# Altium footprint library Smartwatch_Lib.PcbLib: 19 footprints (part 2 of 2)
Each footprint in its own frame and in the unit in brackets; x right, y up, seen from the top. Pads: shape width x height; smd on the part's side, far side on the other; paste and mask are expansions set on the pad; w line width, h text height; cw(c..) or ccw(c..) is an arc to the next point about the centre after c.
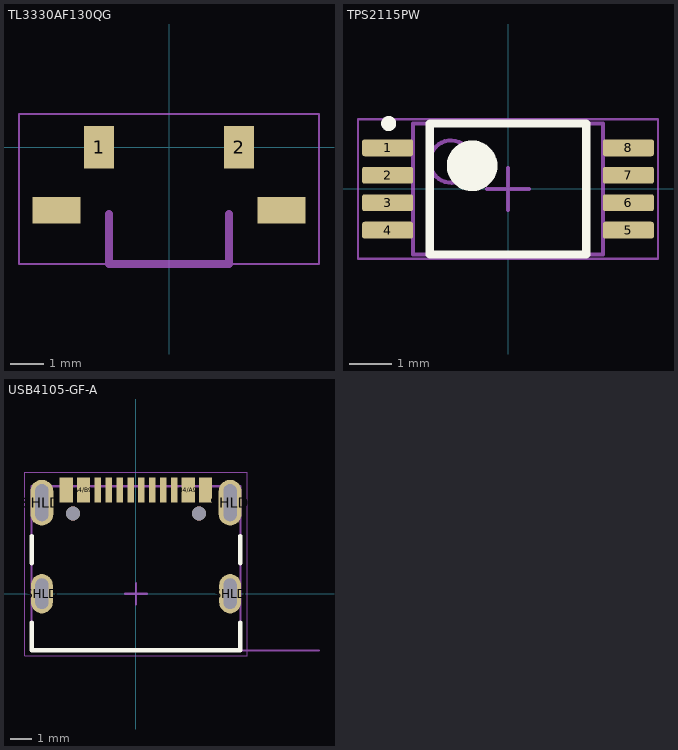
[diagram p1: the footprints below, top view; thin cyan lines are the x and y axes]

## TL3330AF130QG [mm]
pads (4):
  rect 0.9x1.27 smd: 1(-2.1,0) 2(2.1,0)
  rect 1.45x0.8 smd: ""(-3.375,-1.885) ""(3.375,-1.885)
Mechanical 1:
  lines w0.254: -1.8,-2 -1.8,-3.5 1.8,-3.5 1.8,-2
Mechanical 15:
  lines w0.05: -4.5,-3.5 -4.5,1 4.5,1 4.5,-3.5 -4.5,-3.5
3D body "User Library-E-Switch - TL3330AF130QG (Tact Switch, SMD).step": height 3.51, standoff 0.01, extent -3.9,-3.2 3.9,0.4

## TPS2115PW [mm]
pads (8):
  rrect25% 1.2x0.4 smd: 1(-2.85,0.975) 2(-2.85,0.325) 3(-2.85,-0.325) 4(-2.85,-0.975) 5(2.85,-0.975) 6(2.85,-0.325) 7(2.85,0.325) 8(2.85,0.975)
Top Overlay:
  circle w0.2: c-2.825,1.55 r0.08
  circle w0.6: c-0.85,0.55 r0.3
  lines w0.2: -1.85,-1.55 1.85,-1.55 1.85,1.55 -1.85,1.55 -1.85,-1.55
Mechanical 13:
  circle w0.1: c-1.35,0.65 r0.5
  lines w0.1: -2.25,-1.55 2.25,-1.55 2.25,1.55 -2.25,1.55 -2.25,-1.55
Mechanical 15:
  lines w0.05: -3.55,-1.65 -3.55,1.65 3.55,1.65 3.55,-1.65 -3.55,-1.65
  lines w0.1: -0.5,0 0.5,0 ; 0,-0.5 0,0.5
3D body "TSSOP-8.stp": height 1.2, standoff 0, extent -3.228,-1.5 3.228,1.5

## USB4105-GF-A [mm]
pads (18):
  rect 0.6x1.15 smd: A1/B12(-3.2,4.755) A4/B9(-2.4,4.755) B1/A12(3.2,4.755) B4/A9(2.4,4.755)
  rect 0.3x1.15 smd: A5(-1.25,4.755) A6/B6(-0.25,4.755) A6/B6(0.75,4.755) A7/B7(-0.75,4.755) A7/B7(0.25,4.755) A8(1.25,4.755) B5(1.75,4.755) B8(-1.75,4.755)
  round 0.65 hole 0.65 unplated: None(-2.89,3.68) None(2.89,3.68)
  oval 1x1.8 hole 0.6 slot 1.4 at 90 deg: SHLD(-4.32,0) SHLD(4.32,0)
  oval 1.05x2.1 hole 0.6 slot 1.7 at 90 deg: SHLD(-4.32,4.18) SHLD(4.32,4.18)
Top Overlay:
  lines w0.2: -4.79,-1.32 -4.79,-2.6 4.79,-2.6 4.79,-1.32 ; -4.79,1.4 -4.79,2.65 ; 4.79,1.4 4.79,2.65
Mechanical 13:
  lines w0.1: -4.79,-2.6 4.79,-2.6 ; -4.79,-2.6 -4.79,4.93 ; -4.79,-2.6 4.79,-2.6 ; -4.79,-2.6 -4.79,4.93 ; -4.79,4.93 4.79,4.93 ; -4.79,4.93 4.79,4.93 ; 4.79,-2.6 4.79,4.93 ; 4.79,-2.6 4.79,4.93 ; 4.8,-2.6 8.4,-2.6 4.8,-2.6
  text "PCB EDGE" at 5.4,-2.75 h1.88
  text "PCB EDGE" at 5.4,-2.75 h1.88
Mechanical 15:
  lines w0.05: -5.1,-2.85 -5.1,5.58 5.1,5.58 5.1,-2.85 -5.1,-2.85
  lines w0.1: -0.5,0 0.5,0 ; 0,-0.5 0,0.5
3D body "USB4105-15-A-120.stp": height 3.27, standoff -1.19, extent -4.47,-2.6 4.47,5.1